# Altium footprint library FPV1006-150-R.PcbLib: 1 footprints
Each footprint in its own frame and in the unit in brackets; x right, y up, seen from the top. Pads: shape width x height; smd on the part's side, far side on the other; paste and mask are expansions set on the pad; w line width, h text height; cw(c..) or ccw(c..) is an arc to the next point about the centre after c.
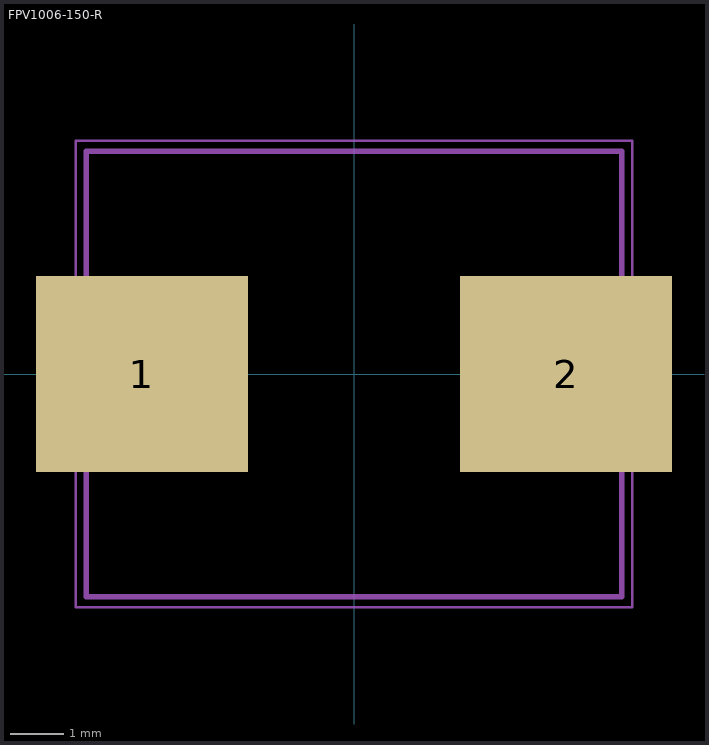
[diagram p0: the footprint, top view; thin cyan lines are the x and y axes]

## FPV1006-150-R [mm]
pads (2):
  rect 4x3.7 smd: 1(-4,0) 2(4,0)
Mechanical 13:
  lines w0.1: -5.05,-4.2 -5.05,4.2 5.05,4.2 5.05,-4.2 -5.05,-4.2
Mechanical 15:
  lines w0.05: -5.25,-4.4 -5.25,4.4 5.25,4.4 5.25,-4.4 -5.25,-4.4
3D body: height 6.4, standoff 0, extent -5.05,-4.2 5.05,4.2